# EAGLE library part SN74LVC2G86DCTR (library SN74LVC2G86DCTR)
Check prices <https://pricing.snapeda.com/search/part/SN74LVC2G86DCTR/?ref=eda>
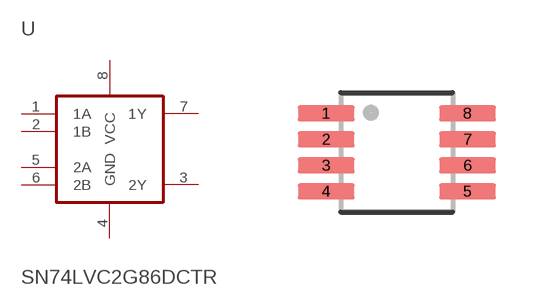
[diagram p0: symbol with the pads of SOP65P400X130-8N; footprint SOP65P400X130-8N]

Designator prefix U

## SN74LVC2G86DCTR (AVAILABILITY: Warning; DESCRIPTION: Dual 2-Input Exclusive-Or Gate 8-SM8 -40 to 125; MF: Texas Instruments; MP: SN74LVC2G86DCTR; PACKAGE: SSOP-8 Texas Instruments; PRICE: None; PURCHASE-URL: https://pricing.snapeda.com/search/part/SN74LVC2G86DCTR/?ref=eda)  [SOP65P400X130-8N]
1  1A
2  1B
3  2Y
4  GND  pwr
5  2A
6  2B
7  1Y
8  VCC  pwr

## Footprint SOP65P400X130-8N (pad centres in mm)
smd 1.42 x 0.4: 1 -1.77,0.975; 2 -1.77,0.325; 3 -1.77,-0.325; 4 -1.77,-0.975; 5 1.77,-0.975; 6 1.77,-0.325; 7 1.77,0.325; 8 1.77,0.975